# Altium integrated library BD140.IntLib: 1 symbol
Pins are listed as number, name and electrical type; pins without a type are passive.

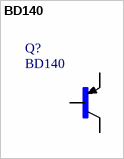
[diagram p0: symbol BD140]

## BD140
designator Q?
Transistor; Transistor Polarity: PNP; Collector Emitter Voltage, V_br_ceo: 80V; Power Dissipation, Pd: 12.5W; DC Coll...; MF: ON; Price: None; Package: TO-126 Multicomp; MP: BD140; Availability: Unavailable; SnapEDA_Link: https://www.snapeda.com/parts/BD140/ON%20Semiconductor/view-part/?ref=snap; Value: *
footprint TO126
pins: 1 E, 2 C, 3 B